# Altium schematic symbol library IQD-Frequency-Products.SCHLIB: 61 symbols
Pins are listed as number, name and electrical type; pins without a type are passive.

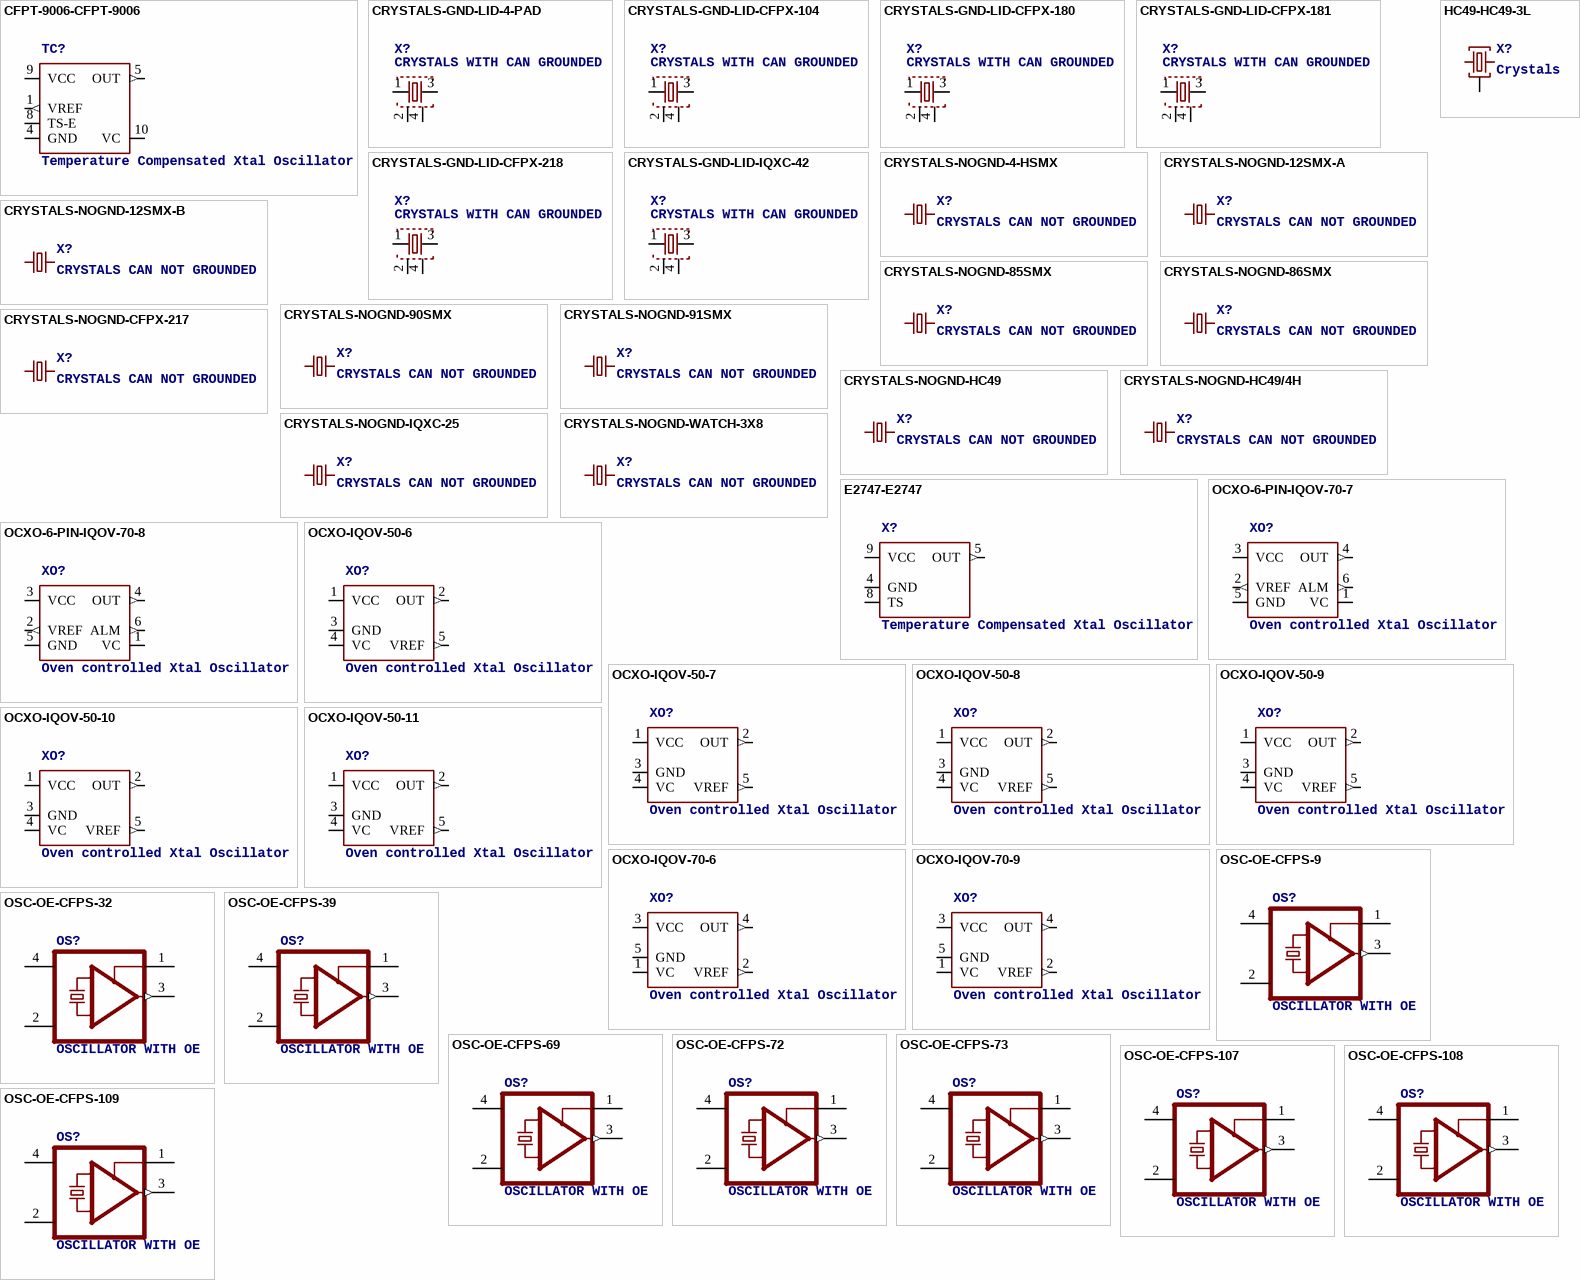
[diagram p0: symbols CFPT-9006-CFPT-9006 to OSC-OE-CFPS-109]

## CFPT-9006-CFPT-9006
designator TC?, comment Temperature Compensated Xtal Oscillator
MFD: IQD Frequency Products
footprint 7.0X5.0-10-PAD
pins: 1 VREF (out), 4 GND (power), 5 OUT (out), 8 TS-E, 9 VCC (power), 10 VC

## CRYSTALS-GND-LID-4-PAD
designator X?, comment CRYSTALS WITH CAN GROUNDED
footprint 7.5X5-4-PAD
pins: 1, 2, 3, 4

## CRYSTALS-GND-LID-CFPX-104
designator X?, comment CRYSTALS WITH CAN GROUNDED
footprint 5.2X3.4-4-PAD
pins: 1, 2, 3, 4

## CRYSTALS-GND-LID-CFPX-180
designator X?, comment CRYSTALS WITH CAN GROUNDED
footprint 3.4X2.7-4-PAD
pins: 1, 2, 3, 4

## CRYSTALS-GND-LID-CFPX-181
designator X?, comment CRYSTALS WITH CAN GROUNDED
footprint 2.5X2-4-PAD
pins: 1, 2, 3, 4

## CRYSTALS-GND-LID-CFPX-218
designator X?, comment CRYSTALS WITH CAN GROUNDED
footprint 2.6X2.1-4-PAD
pins: 1, 2, 3, 4

## CRYSTALS-GND-LID-IQXC-42
designator X?, comment CRYSTALS WITH CAN GROUNDED
footprint 2.0X1.6-4-PAD
pins: 1, 2, 3, 4

## CRYSTALS-NOGND-4-HSMX
designator X?, comment CRYSTALS CAN NOT GROUNDED
footprint HC49-4-HSMX
pins: 1, 2

## CRYSTALS-NOGND-12SMX-A
designator X?, comment CRYSTALS CAN NOT GROUNDED
footprint 7.5X5-2-PAD
pins: 1, 2

## CRYSTALS-NOGND-12SMX-B
designator X?, comment CRYSTALS CAN NOT GROUNDED
footprint 7.5X5-4-PAD
pins: 1, 4 2

## CRYSTALS-NOGND-85SMX
designator X?, comment CRYSTALS CAN NOT GROUNDED
footprint 85SMX
pins: 1, 4 2

## CRYSTALS-NOGND-86SMX
designator X?, comment CRYSTALS CAN NOT GROUNDED
footprint 86SMX
pins: 1, 4 2

## CRYSTALS-NOGND-90SMX
designator X?, comment CRYSTALS CAN NOT GROUNDED
footprint 90SMX
pins: 1, 4 2

## CRYSTALS-NOGND-91SMX
designator X?, comment CRYSTALS CAN NOT GROUNDED
footprint 91SMX
pins: 1, 2

## CRYSTALS-NOGND-CFPX-217
designator X?, comment CRYSTALS CAN NOT GROUNDED
footprint 3.2X1.5-2-PAD
pins: 1, 2

## CRYSTALS-NOGND-HC49
designator X?, comment CRYSTALS CAN NOT GROUNDED
footprint HC49
pins: 1, 2

## CRYSTALS-NOGND-HC49/4H
designator X?, comment CRYSTALS CAN NOT GROUNDED
footprint HC49
pins: 1, 2

## CRYSTALS-NOGND-IQXC-25
designator X?, comment CRYSTALS CAN NOT GROUNDED
footprint 2.0X1.2-2PAD
pins: 1, 2

## CRYSTALS-NOGND-WATCH-3X8
designator X?, comment CRYSTALS CAN NOT GROUNDED
footprint WATCH-3X8
pins: 1, 2

## E2747-E2747
designator X?, comment Temperature Compensated Xtal Oscillator
MFD: IQD Frequency Products
footprint 7.0X5.0-10-PAD
pins: 4 GND (power), 5 OUT (out), 8 TS, 9 VCC (power)

## HC49-HC49-3L
designator X?, comment Crystals
MFD: IQD Frequency Products
footprint HC49-3L
pins: 1, 2, 3

## OCXO-6-PIN-IQOV-70-7
designator XO?, comment Oven controlled Xtal Oscillator
footprint CO-08-5
pins: 1 VC, 2 VREF (out), 3 VCC (power), 4 OUT (out), 5 GND (power), 6 ALM (out)

## OCXO-6-PIN-IQOV-70-8
designator XO?, comment Oven controlled Xtal Oscillator
footprint CO-08-5
pins: 1 VC, 2 VREF (out), 3 VCC (power), 4 OUT (out), 5 GND (power), 6 ALM (out)

## OCXO-IQOV-50-6
designator XO?, comment Oven controlled Xtal Oscillator
footprint CO-15-1
pins: 1 VCC (power), 2 OUT (out), 3 GND (power), 4 VC, 5 VREF (out)

## OCXO-IQOV-50-7
designator XO?, comment Oven controlled Xtal Oscillator
footprint CO-15-1
pins: 1 VCC (power), 2 OUT (out), 3 GND (power), 4 VC, 5 VREF (out)

## OCXO-IQOV-50-8
designator XO?, comment Oven controlled Xtal Oscillator
footprint CO-15-1
pins: 1 VCC (power), 2 OUT (out), 3 GND (power), 4 VC, 5 VREF (out)

## OCXO-IQOV-50-9
designator XO?, comment Oven controlled Xtal Oscillator
footprint CO-15-1
pins: 1 VCC (power), 2 OUT (out), 3 GND (power), 4 VC, 5 VREF (out)

## OCXO-IQOV-50-10
designator XO?, comment Oven controlled Xtal Oscillator
footprint CO-15-1
pins: 1 VCC (power), 2 OUT (out), 3 GND (power), 4 VC, 5 VREF (out)

## OCXO-IQOV-50-11
designator XO?, comment Oven controlled Xtal Oscillator
footprint CO-15-1
pins: 1 VCC (power), 2 OUT (out), 3 GND (power), 4 VC, 5 VREF (out)

## OCXO-IQOV-70-6
designator XO?, comment Oven controlled Xtal Oscillator
footprint C0-08-8
pins: 1 VC, 2 VREF (out), 3 VCC (power), 4 OUT (out), 5 GND (power)

## OCXO-IQOV-70-9
designator XO?, comment Oven controlled Xtal Oscillator
footprint C0-08-8
pins: 1 VC, 2 VREF (out), 3 VCC (power), 4 OUT (out), 5 GND (power)

## OSC-OE-CFPS-9
designator OS?, comment OSCILLATOR WITH OE
footprint 5.2X3.4-4-PAD
pins: 1 CON, 2 VSS (power), 3 OUT (out), 4 VDD (power)

## OSC-OE-CFPS-32
designator OS?, comment OSCILLATOR WITH OE
footprint 7.2X5.2-4-PAD
pins: 1 CON, 2 VSS (power), 3 OUT (out), 4 VDD (power)

## OSC-OE-CFPS-39
designator OS?, comment OSCILLATOR WITH OE
footprint 3.4X2.7-4-PAD
pins: 1 CON, 2 VSS (power), 3 OUT (out), 4 VDD (power)

## OSC-OE-CFPS-69
designator OS?, comment OSCILLATOR WITH OE
footprint 5.0X3.2-4-PAD
pins: 1 CON, 2 VSS (power), 3 OUT (out), 4 VDD (power)

## OSC-OE-CFPS-72
designator OS?, comment OSCILLATOR WITH OE
footprint 7.2X5.2-4-PAD
pins: 1 CON, 2 VSS (power), 3 OUT (out), 4 VDD (power)

## OSC-OE-CFPS-73
designator OS?, comment OSCILLATOR WITH OE
footprint 7.2X5.2-4-PAD
pins: 1 CON, 2 VSS (power), 3 OUT (out), 4 VDD (power)

## OSC-OE-CFPS-107
designator OS?, comment OSCILLATOR WITH OE
footprint 2.6X2.1-4-PAD
pins: 1 CON, 2 VSS (power), 3 OUT (out), 4 VDD (power)

## OSC-OE-CFPS-108
designator OS?, comment OSCILLATOR WITH OE
footprint 2.6X2.1-4-PAD
pins: 1 CON, 2 VSS (power), 3 OUT (out), 4 VDD (power)

## OSC-OE-CFPS-109
designator OS?, comment OSCILLATOR WITH OE
footprint 2.6X2.1-4-PAD
pins: 1 CON, 2 VSS (power), 3 OUT (out), 4 VDD (power)

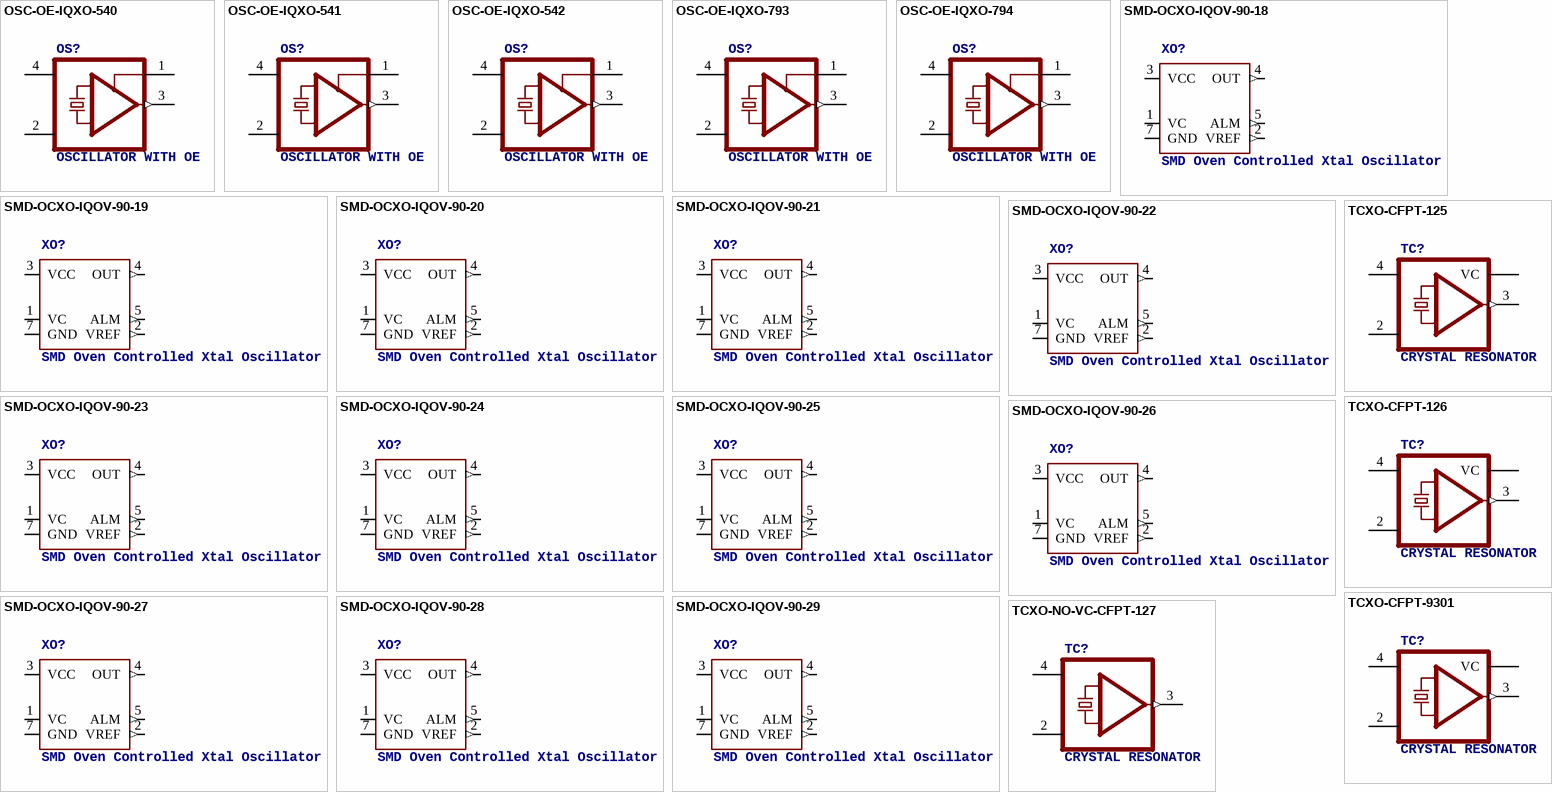
[diagram p1: symbols OSC-OE-IQXO-540 to TCXO-NO-VC-CFPT-127]

## OSC-OE-IQXO-540
designator OS?, comment OSCILLATOR WITH OE
footprint 2.0X1.6-4-PAD
pins: 1 CON, 2 VSS (power), 3 OUT (out), 4 VDD (power)

## OSC-OE-IQXO-541
designator OS?, comment OSCILLATOR WITH OE
footprint 2.0X1.6-4-PAD
pins: 1 CON, 2 VSS (power), 3 OUT (out), 4 VDD (power)

## OSC-OE-IQXO-542
designator OS?, comment OSCILLATOR WITH OE
footprint 2.0X1.6-4-PAD
pins: 1 CON, 2 VSS (power), 3 OUT (out), 4 VDD (power)

## OSC-OE-IQXO-793
designator OS?, comment OSCILLATOR WITH OE
footprint 2.5X2-4-PAD
pins: 1 CON, 2 VSS (power), 3 OUT (out), 4 VDD (power)

## OSC-OE-IQXO-794
designator OS?, comment OSCILLATOR WITH OE
footprint 2.5X2-4-PAD
pins: 1 CON, 2 VSS (power), 3 OUT (out), 4 VDD (power)

## SMD-OCXO-IQOV-90-18
designator XO?, comment SMD Oven Controlled Xtal Oscillator
footprint CS-09-9
pins: 1 VC, 2 VREF (out), 3 VCC (power), 4 OUT (out), 5 ALM (out), 7 GND (power)

## SMD-OCXO-IQOV-90-19
designator XO?, comment SMD Oven Controlled Xtal Oscillator
footprint CS-09-9
pins: 1 VC, 2 VREF (out), 3 VCC (power), 4 OUT (out), 5 ALM (out), 7 GND (power)

## SMD-OCXO-IQOV-90-20
designator XO?, comment SMD Oven Controlled Xtal Oscillator
footprint CS-09-9
pins: 1 VC, 2 VREF (out), 3 VCC (power), 4 OUT (out), 5 ALM (out), 7 GND (power)

## SMD-OCXO-IQOV-90-21
designator XO?, comment SMD Oven Controlled Xtal Oscillator
footprint CS-09-9
pins: 1 VC, 2 VREF (out), 3 VCC (power), 4 OUT (out), 5 ALM (out), 7 GND (power)

## SMD-OCXO-IQOV-90-22
designator XO?, comment SMD Oven Controlled Xtal Oscillator
footprint CS-09-9
pins: 1 VC, 2 VREF (out), 3 VCC (power), 4 OUT (out), 5 ALM (out), 7 GND (power)

## SMD-OCXO-IQOV-90-23
designator XO?, comment SMD Oven Controlled Xtal Oscillator
footprint CS-09-9
pins: 1 VC, 2 VREF (out), 3 VCC (power), 4 OUT (out), 5 ALM (out), 7 GND (power)

## SMD-OCXO-IQOV-90-24
designator XO?, comment SMD Oven Controlled Xtal Oscillator
footprint CS-09-9
pins: 1 VC, 2 VREF (out), 3 VCC (power), 4 OUT (out), 5 ALM (out), 7 GND (power)

## SMD-OCXO-IQOV-90-25
designator XO?, comment SMD Oven Controlled Xtal Oscillator
footprint CS-09-9
pins: 1 VC, 2 VREF (out), 3 VCC (power), 4 OUT (out), 5 ALM (out), 7 GND (power)

## SMD-OCXO-IQOV-90-26
designator XO?, comment SMD Oven Controlled Xtal Oscillator
footprint CS-09-9
pins: 1 VC, 2 VREF (out), 3 VCC (power), 4 OUT (out), 5 ALM (out), 7 GND (power)

## SMD-OCXO-IQOV-90-27
designator XO?, comment SMD Oven Controlled Xtal Oscillator
footprint CS-09-9
pins: 1 VC, 2 VREF (out), 3 VCC (power), 4 OUT (out), 5 ALM (out), 7 GND (power)

## SMD-OCXO-IQOV-90-28
designator XO?, comment SMD Oven Controlled Xtal Oscillator
footprint CS-09-9
pins: 1 VC, 2 VREF (out), 3 VCC (power), 4 OUT (out), 5 ALM (out), 7 GND (power)

## SMD-OCXO-IQOV-90-29
designator XO?, comment SMD Oven Controlled Xtal Oscillator
footprint CS-09-9
pins: 1 VC, 2 VREF (out), 3 VCC (power), 4 OUT (out), 5 ALM (out), 7 GND (power)

## TCXO-CFPT-125
designator TC?, comment CRYSTAL RESONATOR
footprint 7.0X5.0-4-PAD
pins: 1 VC, 2 GND (power), 3 OUT (out), 4 VCC (power)

## TCXO-CFPT-126
designator TC?, comment CRYSTAL RESONATOR
footprint 7.0X5.0-4-PAD
pins: 1 VC, 2 GND (power), 3 OUT (out), 4 VCC (power)

## TCXO-CFPT-9301
designator TC?, comment CRYSTAL RESONATOR
footprint 5.0X3.2-TCXO
pins: 1 VC, 2 GND (power), 3 OUT (out), 4 VCC (power)

## TCXO-NO-VC-CFPT-127
designator TC?, comment CRYSTAL RESONATOR
footprint 5.0X3.2-TCXO
pins: 2 GND (power), 3 OUT (out), 4 VCC (power)